# Altium footprint library ADUM7441.PcbLib: 1 footprints
Each footprint in its own frame and in the unit in brackets; x right, y up, seen from the top. Pads: shape width x height; smd on the part's side, far side on the other; paste and mask are expansions set on the pad; w line width, h text height; cw(c..) or ccw(c..) is an arc to the next point about the centre after c.
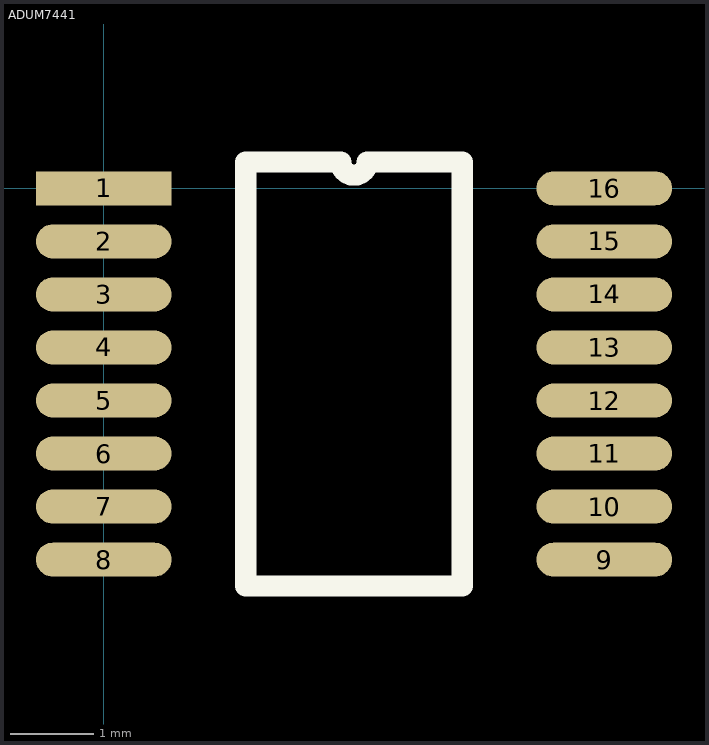
[diagram p0: the footprint, top view; thin cyan lines are the x and y axes]

## ADUM7441 [mil]
pads (16):
  rect 64x16 smd: 1(0,0)
  oval 64x16 smd: 2(0,-25) 3(0,-50) 4(0,-75) 5(0,-100) 6(0,-125) 7(0,-150) 8(0,-175) 9(236,-175) 10(236,-150) 11(236,-125) 12(236,-100) 13(236,-75) 14(236,-50) 15(236,-25) 16(236,0)
Top Overlay:
  lines w10: 67,-187.5 67,12.5 111.75,12.5 ccw(c118,12.5) 124.25,12.5 169,12.5 169,-187.5 67,-187.5